# Altium schematic symbol library Optron.SchLib: 2 symbols
Pins are listed as number, name and electrical type; pins without a type are passive.

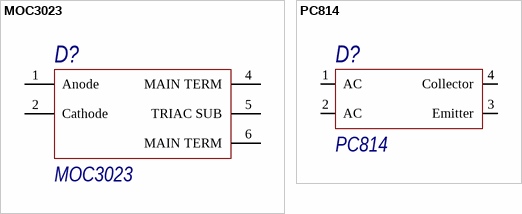
[diagram p0: symbols MOC3023 to PC814]

## MOC3023
designator D?
optotriac; Name: *; Value: *; Body: *
footprint DIP6
pins: 1 Anode, 2 Cathode, 4 MAIN TERM, 5 TRIAC SUB, 6 MAIN TERM

## PC814
designator D?
Body: DIP4; Name: PC814; Value: *
footprint DIP4
pins: 1 AC, 2 AC, 3 Emitter, 4 Collector